# Altium schematic symbol library UPS.SchLib: 8 symbols
Pins are listed as number, name and electrical type; pins without a type are passive.

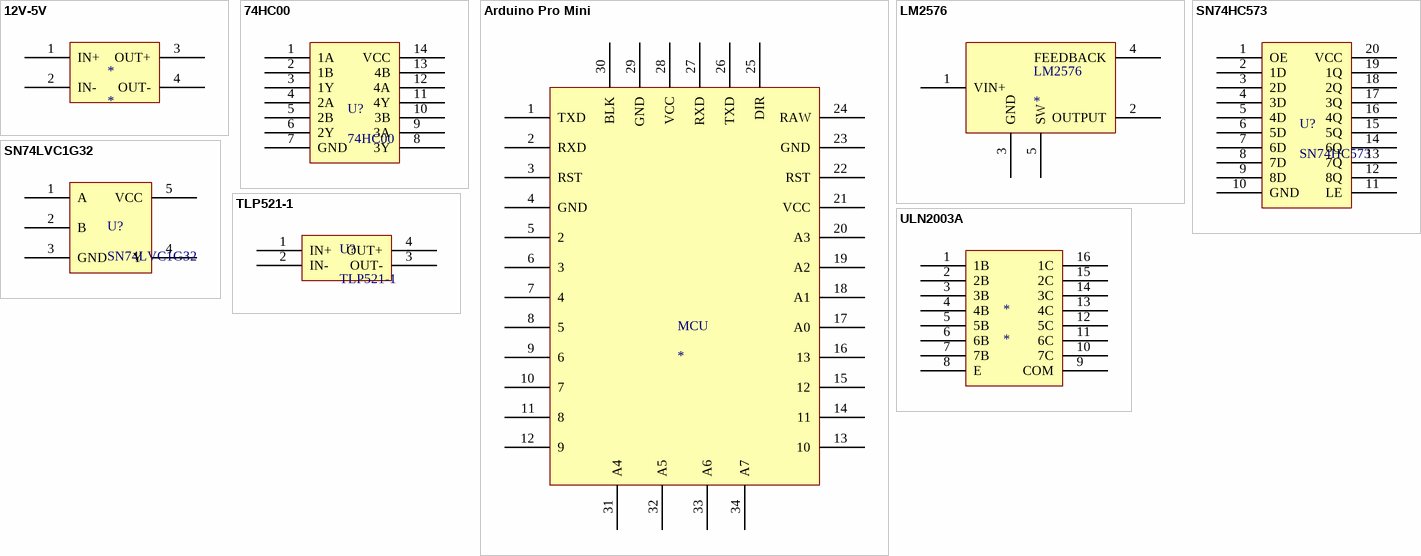
[diagram p0: symbols 12V-5V to ULN2003A]

## 12V-5V
designator *
pins: 1 IN+ "GPIO7", 2 IN- "GPIO7", 3 OUT+ "GPIO7", 4 OUT- "GPIO7"

## 74HC00
designator U?
pins: 1 1A, 2 1B, 3 1Y, 4 2A, 5 2B, 6 2Y, 7 GND, 8 3Y, 9 3A, 10 3B, 11 4Y, 12 4A, 13 4B, 14 VCC

## Arduino Pro Mini
designator MCU
pins: 1 TXD "GPIO7", 2 RXD "GPIO7", 3 RST "GPIO7", 4 GND "GPIO7", 5 2 "GPIO7", 6 3 "GPIO7", 7 4 "GPIO7", 8 5 "GPIO7", 9 6 "GPIO7", 10 7 "GPIO7", 11 8 "GPIO7", 12 9 "GPIO7", 13 10 "GPIO7", 14 11 "GPIO7", 15 12 "GPIO7", 16 13 "GPIO7", 17 A0 "GPIO7", 18 A1 "GPIO7", 19 A2 "GPIO7", 20 A3 "GPIO7", 21 VCC "GPIO7", 22 RST "GPIO7", 23 GND "GPIO7", 24 RAW "GPIO7", 25 DIR "GPIO7", 26 TXD "GPIO7", 27 RXD "GPIO7", 28 VCC "GPIO7", 29 GND "GPIO7", 30 BLK "GPIO7", 31 A4 "GPIO7", 32 A5 "GPIO7", 33 A6 "GPIO7", 34 A7 "GPIO7"

## LM2576
designator LM2576
pins: 1 VIN+ "GPIO7", 2 OUTPUT "GPIO7", 3 GND "GPIO7", 4 FEEDBACK "GPIO7", 5 SW "GPIO7"

## SN74HC573
designator U?
pins: 1 OE, 2 1D, 3 2D, 4 3D, 5 4D, 6 5D, 7 6D, 8 7D, 9 8D, 10 GND, 11 LE, 12 8Q, 13 7Q, 14 6Q, 15 5Q, 16 4Q, 17 3Q, 18 2Q, 19 1Q, 20 VCC

## SN74LVC1G32
designator U?
pins: 1 A, 2 B, 3 GND, 4 Y, 5 VCC

## TLP521-1
designator U?
pins: 1 IN+, 2 IN-, 3 OUT-, 4 OUT+

## ULN2003A
designator *
pins: 1 1B, 2 2B, 3 3B, 4 4B, 5 5B, 6 6B, 7 7B, 8 E (power), 9 COM, 10 7C, 11 6C, 12 5C, 13 4C, 14 3C, 15 2C, 16 1C